# Altium schematic symbol library WE-PMFI.SchLib: 22 symbols
Pins are listed as number, name and electrical type; pins without a type are passive.

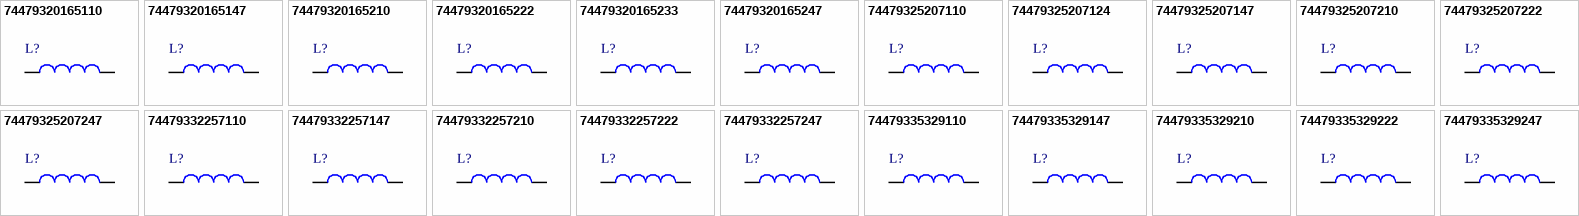
[diagram p0: symbols 74479320165110 to 74479335329247]

## 74479320165110
designator L?, comment 0.1μH  (value not drawn)
WE-PMFI Power Molded Flatwire Inductor, size 201610, 0.1μH, 7.2mΩ; Manufacturer Part Number: 74479320165110; Manufacturer: Wurth Elektronik; Case/Size Code: 201610; Performance Rated Current: 10.2A; Operating Voltage (AC): 48V; Saturation Current @ 30%: 13.7A; Self Resonant Frequency: 325MHz; Category: Power Inductors; Match Code: WE-PMFI; ComponentLink1Description: Website Link; ComponentLink1URL: https://www.we-online.com/redexpert/article/74479320165110?ad; ComponentLink2Description: Datasheet Link; ComponentLink2URL: https://www.we-online.com/redexpert/spec/74479320165110?ad; Mount: Surface Mount; Min Operating Temperature: -55°C; Max Operating Temperature: 150°C; Packaging: Tape and Reel; Length: 2mm; Width: 1.6mm; Height: 1mm; DC Resistance: 7.2mΩ; Inductance: 0.1μH
footprint WE-PMFI_201610
footprint WE-PMFI_201610_IPC-7351
simulation model 201610_74479320165110_0.1u
pins: 1, 2

## 74479320165147
designator L?, comment 0.47μH  (value not drawn)
WE-PMFI Power Molded Flatwire Inductor, size 201610, 0.47μH, 18.4mΩ; Manufacturer Part Number: 74479320165147; Manufacturer: Wurth Elektronik; Case/Size Code: 201610; Performance Rated Current: 6.2A; Operating Voltage (AC): 48V; Saturation Current @ 30%: 7.5A; Self Resonant Frequency: 100MHz; Category: Power Inductors; Match Code: WE-PMFI; ComponentLink1Description: Website Link; ComponentLink1URL: https://www.we-online.com/redexpert/article/74479320165147?ad; ComponentLink2Description: Datasheet Link; ComponentLink2URL: https://www.we-online.com/redexpert/spec/74479320165147?ad; Mount: Surface Mount; Min Operating Temperature: -55°C; Max Operating Temperature: 150°C; Packaging: Tape and Reel; Length: 2mm; Width: 1.6mm; Height: 1mm; DC Resistance: 18.4mΩ; Inductance: 0.47μH
footprint WE-PMFI_201610
footprint WE-PMFI_201610_IPC-7351
simulation model 201610_74479320165147_0.47u
pins: 1, 2

## 74479320165210
designator L?, comment 1μH  (value not drawn)
WE-PMFI Power Molded Flatwire Inductor, size 201610, 1μH, 31.7mΩ; Manufacturer Part Number: 74479320165210; Manufacturer: Wurth Elektronik; Case/Size Code: 201610; Performance Rated Current: 4.7A; Operating Voltage (AC): 48V; Saturation Current @ 30%: 5.25A; Self Resonant Frequency: 67MHz; Category: Power Inductors; Match Code: WE-PMFI; ComponentLink1Description: Website Link; ComponentLink1URL: https://www.we-online.com/redexpert/article/74479320165210?ad; ComponentLink2Description: Datasheet Link; ComponentLink2URL: https://www.we-online.com/redexpert/spec/74479320165210?ad; Mount: Surface Mount; Min Operating Temperature: -55°C; Max Operating Temperature: 150°C; Packaging: Tape and Reel; Length: 2mm; Width: 1.6mm; Height: 1mm; DC Resistance: 31.7mΩ; Inductance: 1μH
footprint WE-PMFI_201610
footprint WE-PMFI_201610_IPC-7351
simulation model 201610_74479320165210_1u
pins: 1, 2

## 74479320165222
designator L?, comment 2.2μH  (value not drawn)
WE-PMFI Power Molded Flatwire Inductor, size 201610, 2.2μH, 81.9mΩ; Manufacturer Part Number: 74479320165222; Manufacturer: Wurth Elektronik; Case/Size Code: 201610; Performance Rated Current: 2.75A; Operating Voltage (AC): 48V; Saturation Current @ 30%: 3.9A; Self Resonant Frequency: 51MHz; Category: Power Inductors; Match Code: WE-PMFI; ComponentLink1Description: Website Link; ComponentLink1URL: https://www.we-online.com/redexpert/article/74479320165222?ad; ComponentLink2Description: Datasheet Link; ComponentLink2URL: https://www.we-online.com/redexpert/spec/74479320165222?ad; Mount: Surface Mount; Min Operating Temperature: -55°C; Max Operating Temperature: 150°C; Packaging: Tape and Reel; Length: 2mm; Width: 1.6mm; Height: 1mm; DC Resistance: 81.9mΩ; Inductance: 2.2μH
footprint WE-PMFI_201610
footprint WE-PMFI_201610_IPC-7351
simulation model 201610_74479320165222_2.2u
pins: 1, 2

## 74479320165233
designator L?, comment 3.3μH  (value not drawn)
WE-PMFI Power Molded Flatwire Inductor, size 201610, 3.3μH, 146mΩ; Manufacturer Part Number: 74479320165233; Manufacturer: Wurth Elektronik; Case/Size Code: 201610; Performance Rated Current: 2.1A; Operating Voltage (AC): 48V; Saturation Current @ 30%: 2.25A; Self Resonant Frequency: 35MHz; Category: Power Inductors; Match Code: WE-PMFI; ComponentLink1Description: Website Link; ComponentLink1URL: https://www.we-online.com/redexpert/article/74479320165233?ad; ComponentLink2Description: Datasheet Link; ComponentLink2URL: https://www.we-online.com/redexpert/spec/74479320165233?ad; Mount: Surface Mount; Min Operating Temperature: -55°C; Max Operating Temperature: 150°C; Packaging: Tape and Reel; Length: 2mm; Width: 1.6mm; Height: 1mm; DC Resistance: 146mΩ; Inductance: 3.3μH
footprint WE-PMFI_201610
footprint WE-PMFI_201610_IPC-7351
simulation model 201610_74479320165233_3.3u
pins: 1, 2

## 74479320165247
designator L?, comment 4.7μH  (value not drawn)
WE-PMFI Power Molded Flatwire Inductor, size 201610, 4.7μH, 195mΩ; Manufacturer Part Number: 74479320165247; Manufacturer: Wurth Elektronik; Case/Size Code: 201610; Performance Rated Current: 2.1A; Operating Voltage (AC): 48V; Saturation Current @ 30%: 2A; Self Resonant Frequency: 30MHz; Category: Power Inductors; Match Code: WE-PMFI; ComponentLink1Description: Website Link; ComponentLink1URL: https://www.we-online.com/redexpert/article/74479320165247?ad; ComponentLink2Description: Datasheet Link; ComponentLink2URL: https://www.we-online.com/redexpert/spec/74479320165247?ad; Mount: Surface Mount; Min Operating Temperature: -55°C; Max Operating Temperature: 150°C; Packaging: Tape and Reel; Length: 2mm; Width: 1.6mm; Height: 1mm; DC Resistance: 195mΩ; Inductance: 4.7μH
footprint WE-PMFI_201610
footprint WE-PMFI_201610_IPC-7351
simulation model 201610_74479320165247_4.7u
pins: 1, 2

## 74479325207110
designator L?, comment 0.1μH  (value not drawn)
WE-PMFI Power Molded Flatwire Inductor, size 252012, 0.1μH, 5.6mΩ; Manufacturer Part Number: 74479325207110; Manufacturer: Wurth Elektronik; Case/Size Code: 252012; Performance Rated Current: 12.3A; Operating Voltage (AC): 48V; Saturation Current @ 30%: 18.7A; Self Resonant Frequency: 438MHz; Category: Power Inductors; Match Code: WE-PMFI; ComponentLink1Description: Website Link; ComponentLink1URL: https://www.we-online.com/redexpert/article/74479325207110?ad; ComponentLink2Description: Datasheet Link; ComponentLink2URL: https://www.we-online.com/redexpert/spec/74479325207110?ad; Mount: Surface Mount; Min Operating Temperature: -55°C; Max Operating Temperature: 150°C; Packaging: Tape and Reel; Length: 2.5mm; Width: 2mm; Height: 1.2mm; DC Resistance: 5.6mΩ; Inductance: 0.1μH
footprint WE-PMFI_252012
footprint WE-PMFI_252012_IPC-7351
simulation model 252012_74479325207110_0.1u
pins: 1, 2

## 74479325207124
designator L?, comment 0.24μH  (value not drawn)
WE-PMFI Power Molded Flatwire Inductor, size 252012, 0.24μH, 11.1mΩ; Manufacturer Part Number: 74479325207124; Manufacturer: Wurth Elektronik; Case/Size Code: 252012; Performance Rated Current: 9A; Operating Voltage (AC): 48V; Saturation Current @ 30%: 11.5A; Self Resonant Frequency: 166MHz; Category: Power Inductors; Match Code: WE-PMFI; ComponentLink1Description: Website Link; ComponentLink1URL: https://www.we-online.com/redexpert/article/74479325207124?ad; ComponentLink2Description: Datasheet Link; ComponentLink2URL: https://www.we-online.com/redexpert/spec/74479325207124?ad; Mount: Surface Mount; Min Operating Temperature: -55°C; Max Operating Temperature: 150°C; Packaging: Tape and Reel; Length: 2.5mm; Width: 2mm; Height: 1.2mm; DC Resistance: 11.1mΩ; Inductance: 0.24μH
footprint WE-PMFI_252012
footprint WE-PMFI_252012_IPC-7351
pins: 1, 2

## 74479325207147
designator L?, comment 0.47μH  (value not drawn)
WE-PMFI Power Molded Flatwire Inductor, size 252012, 0.47μH, 11.3mΩ; Manufacturer Part Number: 74479325207147; Manufacturer: Wurth Elektronik; Case/Size Code: 252012; Performance Rated Current: 9.3A; Operating Voltage (AC): 48V; Saturation Current @ 30%: 7.9A; Self Resonant Frequency: 97MHz; Category: Power Inductors; Match Code: WE-PMFI; ComponentLink1Description: Website Link; ComponentLink1URL: https://www.we-online.com/redexpert/article/74479325207147?ad; ComponentLink2Description: Datasheet Link; ComponentLink2URL: https://www.we-online.com/redexpert/spec/74479325207147?ad; Mount: Surface Mount; Min Operating Temperature: -55°C; Max Operating Temperature: 150°C; Packaging: Tape and Reel; Length: 2.5mm; Width: 2mm; Height: 1.2mm; DC Resistance: 11.3mΩ; Inductance: 0.47μH
footprint WE-PMFI_252012
footprint WE-PMFI_252012_IPC-7351
simulation model 252012_74479325207147_0.47u
pins: 1, 2

## 74479325207210
designator L?, comment 1μH  (value not drawn)
WE-PMFI Power Molded Flatwire Inductor, size 252012, 1μH, 23.8mΩ; Manufacturer Part Number: 74479325207210; Manufacturer: Wurth Elektronik; Case/Size Code: 252012; Performance Rated Current: 6.1A; Operating Voltage (AC): 48V; Self Resonant Frequency: 58MHz; Category: Power Inductors; Match Code: WE-PMFI; ComponentLink1Description: Website Link; ComponentLink1URL: https://www.we-online.com/redexpert/article/74479325207210?ad; ComponentLink2Description: Datasheet Link; ComponentLink2URL: https://www.we-online.com/redexpert/spec/74479325207210?ad; Mount: Surface Mount; Min Operating Temperature: -55°C; Max Operating Temperature: 150°C; Packaging: Tape and Reel; Length: 2.5mm; Width: 2mm; Height: 1.2mm; DC Resistance: 23.8mΩ; Inductance: 1μH; Saturation Current @ 30%: 6.1A
footprint WE-PMFI_252012
footprint WE-PMFI_252012_IPC-7351
simulation model 252012_74479325207210_1u
pins: 1, 2

## 74479325207222
designator L?, comment 2.2μH  (value not drawn)
WE-PMFI Power Molded Flatwire Inductor, size 252012, 2.2μH, 50.1mΩ; Manufacturer Part Number: 74479325207222; Manufacturer: Wurth Elektronik; Case/Size Code: 252012; Performance Rated Current: 4A; Operating Voltage (AC): 48V; Saturation Current @ 30%: 4.5A; Self Resonant Frequency: 39MHz; Category: Power Inductors; Match Code: WE-PMFI; ComponentLink1Description: Website Link; ComponentLink1URL: https://www.we-online.com/redexpert/article/74479325207222?ad; ComponentLink2Description: Datasheet Link; ComponentLink2URL: https://www.we-online.com/redexpert/spec/74479325207222?ad; Mount: Surface Mount; Min Operating Temperature: -55°C; Max Operating Temperature: 150°C; Packaging: Tape and Reel; Length: 2.5mm; Width: 2mm; Height: 1.2mm; DC Resistance: 50.1mΩ; Inductance: 2.2μH
footprint WE-PMFI_252012
footprint WE-PMFI_252012_IPC-7351
simulation model 252012_74479325207222_2.2u
pins: 1, 2

## 74479325207247
designator L?, comment 4.7μH  (value not drawn)
WE-PMFI Power Molded Flatwire Inductor, size 252012, 4.7μH, 114mΩ; Manufacturer Part Number: 74479325207247; Manufacturer: Wurth Elektronik; Case/Size Code: 252012; Performance Rated Current: 2.75A; Operating Voltage (AC): 48V; Saturation Current @ 30%: 2.7A; Self Resonant Frequency: 25MHz; Category: Power Inductors; Match Code: WE-PMFI; ComponentLink1Description: Website Link; ComponentLink1URL: https://www.we-online.com/redexpert/article/74479325207247?ad; ComponentLink2Description: Datasheet Link; ComponentLink2URL: https://www.we-online.com/redexpert/spec/74479325207247?ad; Mount: Surface Mount; Min Operating Temperature: -55°C; Max Operating Temperature: 150°C; Packaging: Tape and Reel; Length: 2.5mm; Width: 2mm; Height: 1.2mm; DC Resistance: 114mΩ; Inductance: 4.7μH
footprint WE-PMFI_252012
footprint WE-PMFI_252012_IPC-7351
simulation model 252012_74479325207247_4.7u
pins: 1, 2

## 74479332257110
designator L?, comment 0.1μH  (value not drawn)
WE-PMFI Power Molded Flatwire Inductor, size 322512, 0.1μH, 7.4mΩ; Manufacturer Part Number: 74479332257110; Manufacturer: Wurth Elektronik; Case/Size Code: 322512; Performance Rated Current: 11.4A; Operating Voltage (AC): 48V; Saturation Current @ 30%: 21.5A; Self Resonant Frequency: 405MHz; Category: Power Inductors; Match Code: WE-PMFI; ComponentLink1Description: Website Link; ComponentLink1URL: https://www.we-online.com/redexpert/article/74479332257110?ad; ComponentLink2Description: Datasheet Link; ComponentLink2URL: https://www.we-online.com/redexpert/spec/74479332257110?ad; Mount: Surface Mount; Min Operating Temperature: -55°C; Max Operating Temperature: 150°C; Packaging: Tape and Reel; Length: 3.2mm; Width: 2.5mm; Height: 1.2mm; DC Resistance: 7.4mΩ; Inductance: 0.1μH
footprint WE-PMFI_322512
footprint WE-PMFI_322512_IPC-7351
simulation model 322512_74479332257110_0.1u
pins: 1, 2

## 74479332257147
designator L?, comment 0.47μH  (value not drawn)
WE-PMFI Power Molded Flatwire Inductor, size 322512, 0.47μH, 14.2mΩ; Manufacturer Part Number: 74479332257147; Manufacturer: Wurth Elektronik; Case/Size Code: 322512; Performance Rated Current: 7.9A; Operating Voltage (AC): 48V; Saturation Current @ 30%: 10.6A; Self Resonant Frequency: 126MHz; Category: Power Inductors; Match Code: WE-PMFI; ComponentLink1Description: Website Link; ComponentLink1URL: https://www.we-online.com/redexpert/article/74479332257147?ad; ComponentLink2Description: Datasheet Link; ComponentLink2URL: https://www.we-online.com/redexpert/spec/74479332257147?ad; Mount: Surface Mount; Min Operating Temperature: -55°C; Max Operating Temperature: 150°C; Packaging: Tape and Reel; Length: 3.2mm; Width: 2.5mm; Height: 1.2mm; DC Resistance: 14.2mΩ; Inductance: 0.47μH
footprint WE-PMFI_322512
footprint WE-PMFI_322512_IPC-7351
simulation model 322512_74479332257147_0.47u
pins: 1, 2

## 74479332257210
designator L?, comment 1μH  (value not drawn)
WE-PMFI Power Molded Flatwire Inductor, size 322512, 1μH, 23.3mΩ; Manufacturer Part Number: 74479332257210; Manufacturer: Wurth Elektronik; Case/Size Code: 322512; Performance Rated Current: 5.8A; Operating Voltage (AC): 48V; Saturation Current @ 30%: 9.15A; Self Resonant Frequency: 67MHz; Category: Power Inductors; Match Code: WE-PMFI; ComponentLink1Description: Website Link; ComponentLink1URL: https://www.we-online.com/redexpert/article/74479332257210?ad; ComponentLink2Description: Datasheet Link; ComponentLink2URL: https://www.we-online.com/redexpert/spec/74479332257210?ad; Mount: Surface Mount; Min Operating Temperature: -55°C; Max Operating Temperature: 150°C; Packaging: Tape and Reel; Length: 3.2mm; Width: 2.5mm; Height: 1.2mm; DC Resistance: 23.3mΩ; Inductance: 1μH
footprint WE-PMFI_322512
footprint WE-PMFI_322512_IPC-7351
simulation model 322512_74479332257210_1u
pins: 1, 2

## 74479332257222
designator L?, comment 2.2μH  (value not drawn)
WE-PMFI Power Molded Flatwire Inductor, size 322512, 2.2μH, 49.6mΩ; Manufacturer Part Number: 74479332257222; Manufacturer: Wurth Elektronik; Case/Size Code: 322512; Performance Rated Current: 4.1A; Operating Voltage (AC): 48V; Saturation Current @ 30%: 5.4A; Self Resonant Frequency: 44MHz; Category: Power Inductors; Match Code: WE-PMFI; ComponentLink1Description: Website Link; ComponentLink1URL: https://www.we-online.com/redexpert/article/74479332257222?ad; ComponentLink2Description: Datasheet Link; ComponentLink2URL: https://www.we-online.com/redexpert/spec/74479332257222?ad; Mount: Surface Mount; Min Operating Temperature: -55°C; Max Operating Temperature: 150°C; Packaging: Tape and Reel; Length: 3.2mm; Width: 2.5mm; Height: 1.2mm; DC Resistance: 49.6mΩ; Inductance: 2.2μH
footprint WE-PMFI_322512
footprint WE-PMFI_322512_IPC-7351
simulation model 322512_74479332257222_2.2u
pins: 1, 2

## 74479332257247
designator L?, comment 4.7μH  (value not drawn)
WE-PMFI Power Molded Flatwire Inductor, size 322512, 4.7μH, 107mΩ; Manufacturer Part Number: 74479332257247; Manufacturer: Wurth Elektronik; Case/Size Code: 322512; Performance Rated Current: 2.7A; Operating Voltage (AC): 48V; Saturation Current @ 30%: 4A; Self Resonant Frequency: 25MHz; Category: Power Inductors; Match Code: WE-PMFI; ComponentLink1Description: Website Link; ComponentLink1URL: https://www.we-online.com/redexpert/article/74479332257247?ad; ComponentLink2Description: Datasheet Link; ComponentLink2URL: https://www.we-online.com/redexpert/spec/74479332257247?ad; Mount: Surface Mount; Min Operating Temperature: -55°C; Max Operating Temperature: 150°C; Packaging: Tape and Reel; Length: 3.2mm; Width: 2.5mm; Height: 1.2mm; DC Resistance: 107mΩ; Inductance: 4.7μH
footprint WE-PMFI_322512
footprint WE-PMFI_322512_IPC-7351
simulation model 322512_74479332257247_4.7u
pins: 1, 2

## 74479335329110
designator L?, comment 0.1μH  (value not drawn)
WE-PMFI Power Molded Flatwire Inductor, size 353220, 0.1μH, 4.8mΩ; Manufacturer Part Number: 74479335329110; Manufacturer: Wurth Elektronik; Case/Size Code: 353220; Performance Rated Current: 16A; Operating Voltage (AC): 48V; Saturation Current @ 30%: 25A; Self Resonant Frequency: 310MHz; Category: Power Inductors; Match Code: WE-PMFI; ComponentLink1Description: Website Link; ComponentLink1URL: https://www.we-online.com/redexpert/article/74479335329110?ad; ComponentLink2Description: Datasheet Link; ComponentLink2URL: https://www.we-online.com/redexpert/spec/74479335329110?ad; Mount: Surface Mount; Min Operating Temperature: -55°C; Max Operating Temperature: 150°C; Packaging: Tape and Reel; Length: 3.5mm; Width: 3.2mm; Height: 2mm; DC Resistance: 4.8mΩ; Inductance: 0.1μH
footprint WE-PMFI_353220
simulation model 353220_74479335329110_0.1u
pins: 1, 2

## 74479335329147
designator L?, comment 0.47μH  (value not drawn)
WE-PMFI Power Molded Flatwire Inductor, size 353220, 0.47μH, 12.7mΩ; Manufacturer Part Number: 74479335329147; Manufacturer: Wurth Elektronik; Case/Size Code: 353220; Performance Rated Current: 9.9A; Operating Voltage (AC): 48V; Saturation Current @ 30%: 13.2A; Self Resonant Frequency: 92MHz; Category: Power Inductors; Match Code: WE-PMFI; ComponentLink1Description: Website Link; ComponentLink1URL: https://www.we-online.com/redexpert/article/74479335329147?ad; ComponentLink2Description: Datasheet Link; ComponentLink2URL: https://www.we-online.com/redexpert/spec/74479335329147?ad; Mount: Surface Mount; Min Operating Temperature: -55°C; Max Operating Temperature: 150°C; Packaging: Tape and Reel; Length: 3.5mm; Width: 3.2mm; Height: 2mm; DC Resistance: 12.7mΩ; Inductance: 0.47μH
footprint WE-PMFI_353220
simulation model 353220_74479335329147_0.47u
pins: 1, 2

## 74479335329210
designator L?, comment 1μH  (value not drawn)
WE-PMFI Power Molded Flatwire Inductor, size 353220, 1μH, 18.4mΩ; Manufacturer Part Number: 74479335329210; Manufacturer: Wurth Elektronik; Case/Size Code: 353220; Performance Rated Current: 7.3A; Operating Voltage (AC): 48V; Saturation Current @ 30%: 10.8A; Self Resonant Frequency: 56MHz; Category: Power Inductors; Match Code: WE-PMFI; ComponentLink1Description: Website Link; ComponentLink1URL: https://www.we-online.com/redexpert/article/74479335329210?ad; ComponentLink2Description: Datasheet Link; ComponentLink2URL: https://www.we-online.com/redexpert/spec/74479335329210?ad; Mount: Surface Mount; Min Operating Temperature: -55°C; Max Operating Temperature: 150°C; Packaging: Tape and Reel; Length: 3.5mm; Width: 3.2mm; Height: 2mm; DC Resistance: 18.4mΩ; Inductance: 1μH
footprint WE-PMFI_353220
simulation model 353220_74479335329210_1u
pins: 1, 2

## 74479335329222
designator L?, comment 2.2μH  (value not drawn)
WE-PMFI Power Molded Flatwire Inductor, size 353220, 2.2μH, 31.6mΩ; Manufacturer Part Number: 74479335329222; Manufacturer: Wurth Elektronik; Case/Size Code: 353220; Performance Rated Current: 5.8A; Operating Voltage (AC): 48V; Saturation Current @ 30%: 7.8A; Self Resonant Frequency: 31MHz; Category: Power Inductors; Match Code: WE-PMFI; ComponentLink1Description: Website Link; ComponentLink1URL: https://www.we-online.com/redexpert/article/74479335329222?ad; ComponentLink2Description: Datasheet Link; ComponentLink2URL: https://www.we-online.com/redexpert/spec/74479335329222?ad; Mount: Surface Mount; Min Operating Temperature: -55°C; Max Operating Temperature: 150°C; Packaging: Tape and Reel; Length: 3.5mm; Width: 3.2mm; Height: 2mm; DC Resistance: 31.6mΩ; Inductance: 2.2μH
footprint WE-PMFI_353220
simulation model 353220_74479335329222_2.2u
pins: 1, 2

## 74479335329247
designator L?, comment 4.7μH  (value not drawn)
WE-PMFI Power Molded Flatwire Inductor, size 353220, 4.7μH, 63.2mΩ; Manufacturer Part Number: 74479335329247; Manufacturer: Wurth Elektronik; Case/Size Code: 353220; Performance Rated Current: 3.85A; Operating Voltage (AC): 48V; Saturation Current @ 30%: 5.6A; Self Resonant Frequency: 21MHz; Category: Power Inductors; Match Code: WE-PMFI; ComponentLink1Description: Website Link; ComponentLink1URL: https://www.we-online.com/redexpert/article/74479335329247?ad; ComponentLink2Description: Datasheet Link; ComponentLink2URL: https://www.we-online.com/redexpert/spec/74479335329247?ad; Mount: Surface Mount; Min Operating Temperature: -55°C; Max Operating Temperature: 150°C; Packaging: Tape and Reel; Length: 3.5mm; Width: 3.2mm; Height: 2mm; DC Resistance: 63.2mΩ; Inductance: 4.7μH
footprint WE-PMFI_353220
simulation model 353220_74479335329247_4.7u
pins: 1, 2